# Altium schematic symbol library PSMN2R2-25YLC.SchLib: 1 symbol
Pins are listed as number, name and electrical type; pins without a type are passive.

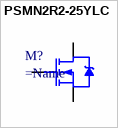
[diagram p0: symbol PSMN2R2-25YLC]

## PSMN2R2-25YLC
designator M?
MfrPartNo: *
pins: D Drain, G Gate, S Source